# Altium footprint library StepperMotor.PcbLib: 31 footprints (part 2 of 2)
Each footprint in its own frame and in the unit in brackets; x right, y up, seen from the top. Pads: shape width x height; smd on the part's side, far side on the other; paste and mask are expansions set on the pad; w line width, h text height; cw(c..) or ccw(c..) is an arc to the next point about the centre after c.
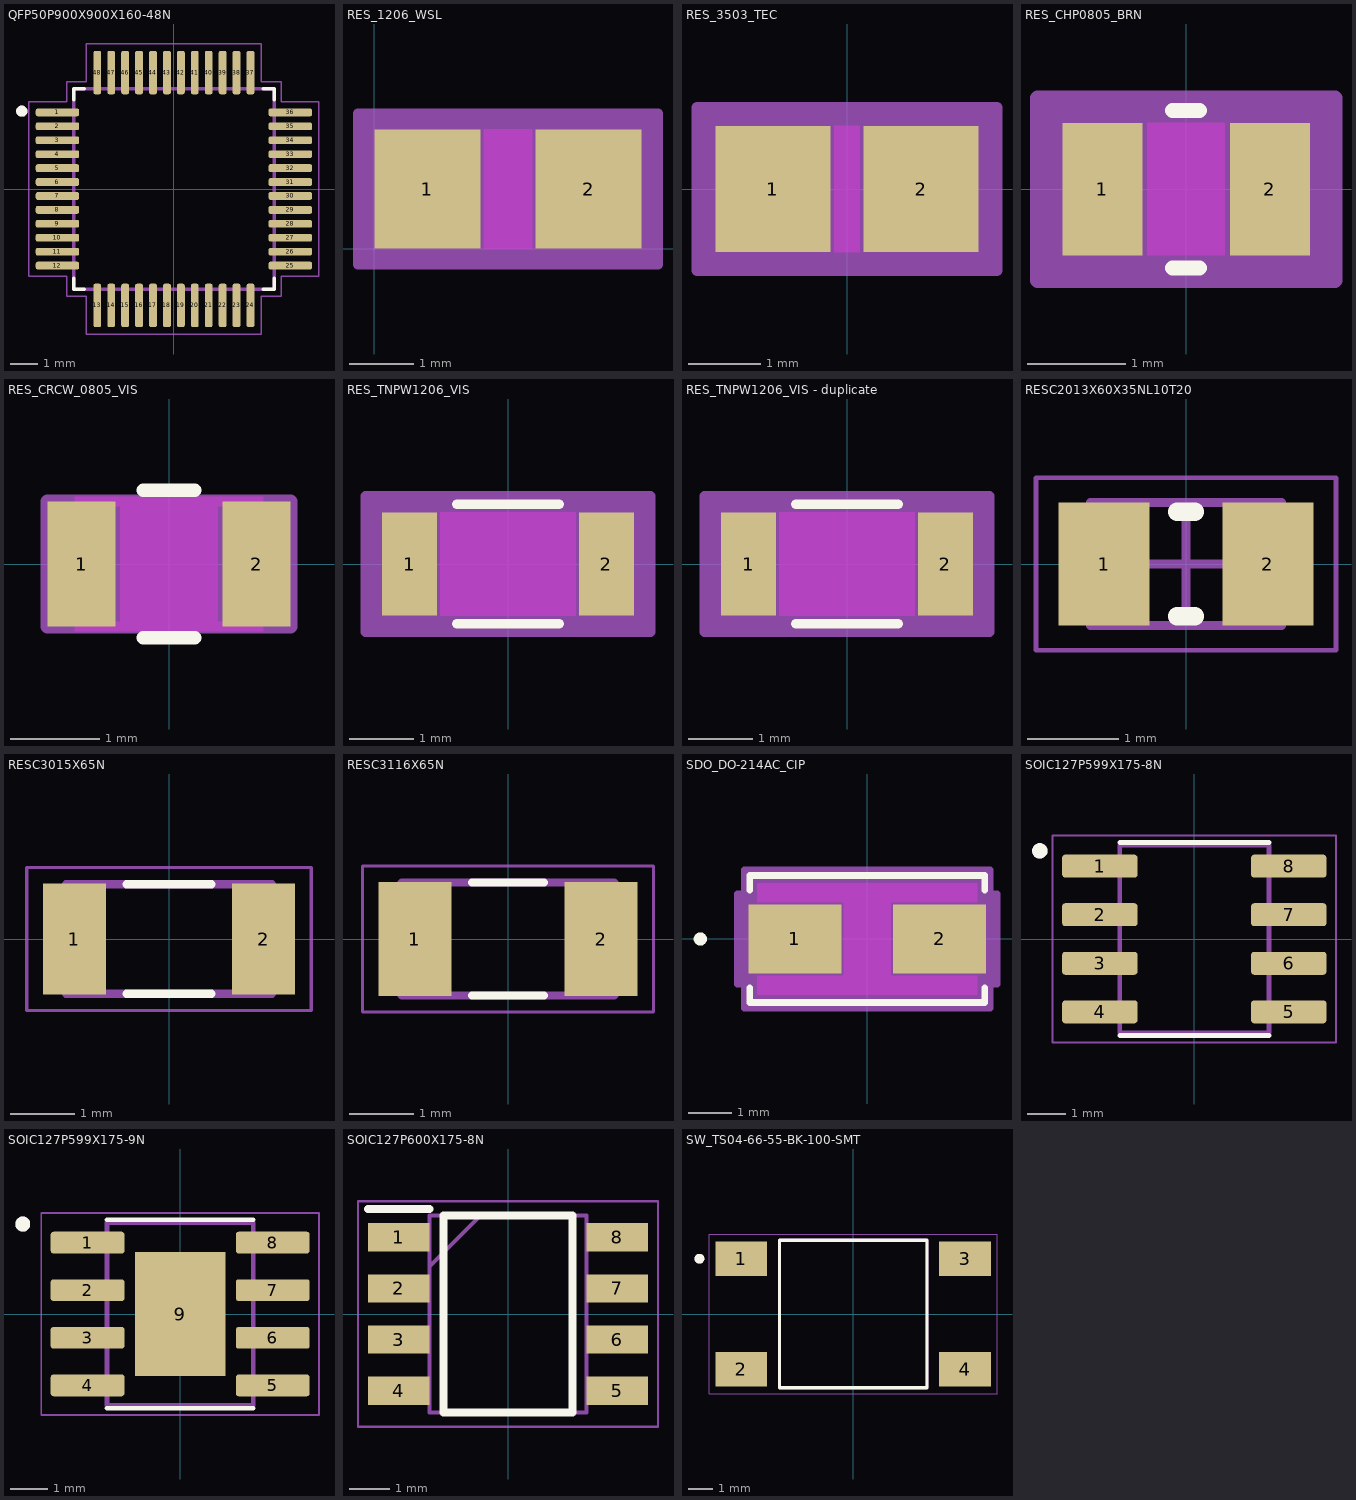
[diagram p1: the footprints below, top view; thin cyan lines are the x and y axes]

## QFP50P900X900X160-48N [mm]
pads (48):
  rrect50% 1.56x0.28 smd: 1(-4.18,2.75) 2(-4.18,2.25) 3(-4.18,1.75) 4(-4.18,1.25) 5(-4.18,0.75) 6(-4.18,0.25) 7(-4.18,-0.25) 8(-4.18,-0.75) 9(-4.18,-1.25) 10(-4.18,-1.75) 11(-4.18,-2.25) 12(-4.18,-2.75) 25(4.18,-2.75) 26(4.18,-2.25) 27(4.18,-1.75) 28(4.18,-1.25) 29(4.18,-0.75) 30(4.18,-0.25) 31(4.18,0.25) 32(4.18,0.75) 33(4.18,1.25) 34(4.18,1.75) 35(4.18,2.25) 36(4.18,2.75)
  rrect50% 0.28x1.56 smd: 13(-2.75,-4.18) 14(-2.25,-4.18) 15(-1.75,-4.18) 16(-1.25,-4.18) 17(-0.75,-4.18) 18(-0.25,-4.18) 19(0.25,-4.18) 20(0.75,-4.18) 21(1.25,-4.18) 22(1.75,-4.18) 23(2.25,-4.18) 24(2.75,-4.18) 37(2.75,4.18) 38(2.25,4.18) 39(1.75,4.18) 40(1.25,4.18) 41(0.75,4.18) 42(0.25,4.18) 43(-0.25,4.18) 44(-0.75,4.18) 45(-1.25,4.18) 46(-1.75,4.18) 47(-2.25,4.18) 48(-2.75,4.18)
Top Overlay:
  circle w0.2: c-5.461,2.794 r0.1
  lines w0.127: -3.6,-3.21 -3.6,-3.6 -3.21,-3.6 ; -3.6,3.21 -3.6,3.6 -3.21,3.6 ; 3.21,-3.6 3.6,-3.6 3.6,-3.21 ; 3.21,3.6 3.6,3.6 3.6,3.21
Mechanical 13:
  circle w0.2: c-5.461,2.794 r0.1
  lines w0.127: -3.6,-3.6 3.6,-3.6 3.6,3.6 -3.6,3.6 -3.6,-3.6
Mechanical 15:
  lines w0.05: -5.21,-3.14 -5.21,3.14 -3.85,3.14 -3.85,3.85 -3.14,3.85 -3.14,5.21 3.14,5.21 3.14,3.85 3.85,3.85 3.85,3.14 5.21,3.14 5.21,-3.14 3.85,-3.14 3.85,-3.85 3.14,-3.85 3.14,-5.21 -3.14,-5.21 -3.14,-3.85 -3.85,-3.85 -3.85,-3.14 -5.21,-3.14

## RES_1206_WSL [mil]
pads (2):
  rect 65x73 smd paste-36.5 mask-36.5: 1(32.46,36.52) 2(131.46,36.52)
Top Layer keep-out:
  region: 66.96,2.02 66.96,71.02 96.96,71.02 96.96,2.02
Keep-Out Layer:
  region: 66.96,0.02 66.96,73.02 96.96,73.02 96.96,0.02
Mechanical 13:
  lines w1: 13.96,0.02 13.96,73.02 ; 13.96,0.02 64.96,0.02 64.96,73.02 13.96,73.02 ; 13.96,0.02 149.96,0.02 ; 13.96,0.02 13.96,73.02 ; 13.96,73.02 149.96,73.02 ; 149.96,0.02 98.96,0.02 98.96,73.02 149.96,73.02 ; 149.96,0.02 149.96,73.02 ; 149.96,0.02 149.96,73.02
Mechanical 15:
  region: 173.96,-9.98 -10.04,-9.98 -10.04,83.02 173.96,83.02
  lines w6: -10.04,-9.98 -10.04,83.02 173.96,83.02 173.96,-9.98 -10.04,-9.98
3D body "RES_1206_WSL.step": height 35, standoff 0, extent 13.96,0.03 149.95,73.02

## RES_3503_TEC [mil]
pads (2):
  rect 63x69 smd paste+0 mask+0: 1(-40.5,0) 2(40.5,0)
Top Layer keep-out:
  region: -7,-32.5 -7,32.5 7,32.5 7,-32.5
Keep-Out Layer:
  region: -7,-34.5 -7,34.5 7,34.5 7,-34.5
Mechanical 13:
  lines w1: -64,-34.5 -64,34.5 ; -64,-34.5 64,-34.5 ; -64,-34.5 -9,-34.5 -9,34.5 -64,34.5 ; -64,-34.5 -64,34.5 ; -64,34.5 64,34.5 ; 64,-34.5 64,34.5 ; 64,-34.5 64,34.5 ; 64,-34.5 9,-34.5 9,34.5 64,34.5
Mechanical 15:
  region: 82,-44.5 -82,-44.5 -82,44.5 82,44.5
  lines w6: -82,-44.5 82,-44.5 82,44.5 -82,44.5 -82,-44.5
3D body "RES_3503_TEC.step": height 22.99, standoff 0, extent -64.02,-34.49 64.02,34.49

## RES_CHP0805_BRN [mil]
pads (2):
  rect 32x53 smd paste+0 mask+0: 1(-33.5,0) 2(33.5,0)
Top Layer keep-out:
  region: -15.5,-24.5 -15.5,24.5 15.5,24.5 15.5,-24.5
Top Overlay:
  lines w6: -5.39,-31.5 5.39,-31.5 ; -5.39,31.5 5.39,31.5
Keep-Out Layer:
  region: -15.5,-26.5 -15.5,26.5 15.5,26.5 15.5,-26.5
Mechanical 13:
  lines w1: -41.5,-26.5 -41.5,26.5 ; -41.5,-26.5 -17.5,-26.5 -17.5,26.5 -41.5,26.5 ; -41.5,-26.5 41.5,-26.5 ; -41.5,-26.5 -41.5,26.5 ; -41.5,26.5 41.5,26.5 ; 41.5,-26.5 17.5,-26.5 17.5,26.5 41.5,26.5 ; 41.5,-26.5 41.5,26.5 ; 41.5,-26.5 41.5,26.5
Mechanical 15:
  region: 59.5,-36.5 -59.5,-36.5 -59.5,36.5 59.5,36.5
  lines w6: -59.5,-36.5 -59.5,36.5 59.5,36.5 59.5,-36.5 -59.5,-36.5
3D body "RES_CHP0805_BRN.step": height 24.02, standoff 0, extent -41.5,-26.5 41.5,26.5

## RES_CRCW_0805_VIS [mil]
pads (2):
  rect 30x55 smd paste+0 mask+0: 1(-38.5,0) 2(38.5,0)
Top Layer keep-out:
  region: -41.5,-25.5 -41.5,-29.5 41.5,-29.5 41.5,-25.5
  region: -41.5,29.5 -41.5,25.5 41.5,25.5 41.5,29.5
  region: -21.5,-29.5 -21.5,29.5 21.5,29.5 21.5,-29.5
Top Overlay:
  lines w6: -11.39,-32.5 11.39,-32.5 ; -11.39,32.5 11.39,32.5
Keep-Out Layer:
  region: -21.5,-29.5 -21.5,29.5 21.5,29.5 21.5,-29.5
Mechanical 13:
  lines w1: -43.5,-27.5 -43.5,27.5 43.5,27.5 43.5,-27.5 -43.5,-27.5
Mechanical 15:
  region: -43.5,-27.5 -53.5,-27.5 -53.5,27.5 -43.5,27.5 43.5,27.5 53.5,27.5 53.5,-27.5 43.5,-27.5
  lines w6: -53.5,-27.5 -43.5,-27.5 43.5,-27.5 53.5,-27.5 53.5,27.5 43.5,27.5 -43.5,27.5 -53.5,27.5 -53.5,-27.5
3D body "RES_CRCW_0805_VIS.step": height 20, standoff 0, extent -43.5,-27.48 43.5,27.48

## RES_TNPW1206_VIS [mm]
pads (2):
  rect 0.856x1.6 smd paste+0 mask+0: 1(-1.528,0) 2(1.528,0)
Top Layer keep-out:
  region: -1.049,-0.749 -1.049,0.749 1.049,0.749 1.049,-0.749
Top Overlay:
  lines w0.152: -0.792,-0.927 0.792,-0.927 ; -0.792,0.927 0.792,0.927
Keep-Out Layer:
  region: -1.049,-0.8 -1.049,0.8 1.049,0.8 1.049,-0.8
Mechanical 13:
  lines w0.025: -1.6,-0.8 -1.6,0.8 ; -1.6,-0.8 1.6,-0.8 ; -1.6,-0.8 -1.1,-0.8 -1.1,0.8 -1.6,0.8 ; -1.6,-0.8 -1.6,0.8 ; -1.6,0.8 1.6,0.8 ; 1.6,-0.8 1.6,0.8 ; 1.6,-0.8 1.6,0.8 ; 1.6,-0.8 1.1,-0.8 1.1,0.8 1.6,0.8
Mechanical 15:
  region: 2.21,-1.054 -2.21,-1.054 -2.21,1.054 2.21,1.054
  lines w0.152: -2.21,-1.054 2.21,-1.054 2.21,1.054 -2.21,1.054 -2.21,-1.054
3D body "RES_TNPW1206_VIS.step": height 0.55, standoff 0, extent -1.6,-0.8 1.6,0.8

## RES_TNPW1206_VIS - duplicate [mm]
pads (2):
  rect 0.856x1.6 smd paste+0 mask+0: 1(-1.528,0) 2(1.528,0)
Top Layer keep-out:
  region: -1.049,-0.749 -1.049,0.749 1.049,0.749 1.049,-0.749
Top Overlay:
  lines w0.152: -0.792,-0.927 0.792,-0.927 ; -0.792,0.927 0.792,0.927
Keep-Out Layer:
  region: -1.049,-0.8 -1.049,0.8 1.049,0.8 1.049,-0.8
Mechanical 13:
  lines w0.025: -1.6,-0.8 -1.6,0.8 ; -1.6,-0.8 -1.1,-0.8 -1.1,0.8 -1.6,0.8 ; -1.6,-0.8 1.6,-0.8 ; -1.6,-0.8 -1.6,0.8 ; -1.6,0.8 1.6,0.8 ; 1.6,-0.8 1.1,-0.8 1.1,0.8 1.6,0.8 ; 1.6,-0.8 1.6,0.8 ; 1.6,-0.8 1.6,0.8
Mechanical 15:
  region: 2.21,-1.054 -2.21,-1.054 -2.21,1.054 2.21,1.054
  lines w0.152: -2.21,-1.054 -2.21,1.054 2.21,1.054 2.21,-1.054 -2.21,-1.054
3D body "RES_TNPW1206_VIS.step": height 0.55, standoff 0, extent -1.6,-0.8 1.6,0.8

## RESC2013X60X35NL10T20 [mm] "Chip Resistor, 2-Leads, Body 2.1x1.35mm, IPC Medium Density"
height 0.6
pads (2):
  rect 1x1.35 smd: 1(-0.9,0) 2(0.9,0)
Top Overlay:
  lines w0.2: -0.1,-0.575 0.1,-0.575 ; -0.1,0.575 0.1,0.575
Mechanical 13:
  lines w0.1: -1.05,-0.675 -1.05,0.675 1.05,0.675 1.05,-0.675 -1.05,-0.675
Mechanical 15:
  lines w0.05: -1.65,-0.95 -1.65,0.95 1.65,0.95 1.65,-0.95 -1.65,-0.95
  lines w0.1: -0.5,0 0.5,0 ; 0,-0.5 0,0.5
3D body "RESC2012X06N.step": height 0.6, standoff 0, extent -1.05,-0.675 1.05,0.675

## RESC3015X65N [mm]
pads (2):
  rect 0.98x1.72 smd: 1(-1.47,0) 2(1.47,0)
Top Overlay:
  lines w0.127: -0.66,-0.85 0.66,-0.85 ; -0.66,0.85 0.66,0.85
Mechanical 13:
  lines w0.127: -1.6,-0.85 1.6,-0.85 1.6,0.85 -1.6,0.85 -1.6,-0.85
Mechanical 15:
  lines w0.05: -2.21,-1.11 2.21,-1.11 2.21,1.11 -2.21,1.11 -2.21,-1.11

## RESC3116X65N [mm]
pads (2):
  rect 1.13x1.77 smd: 1(-1.445,0) 2(1.445,0)
Top Overlay:
  lines w0.127: -0.56,-0.88 0.56,-0.88 ; -0.56,0.88 0.56,0.88
Mechanical 13:
  lines w0.127: -1.65,-0.88 -1.65,0.88 1.65,0.88 1.65,-0.88 -1.65,-0.88
Mechanical 15:
  lines w0.05: -2.26,-1.135 -2.26,1.135 2.26,1.135 2.26,-1.135 -2.26,-1.135

## SDO_DO-214AC_CIP [mil]
pads (2):
  rect 85x63 smd paste+0 mask+0: 1(-66,0) 2(66,0)
Top Layer keep-out:
  region: -21.5,-33.5 -21.5,33.5 21.5,33.5 21.5,-33.5
  region: -100.5,33.5 -100.5,51 100.5,51 100.5,33.5
  region: -100.5,-51 -100.5,-33.5 100.5,-33.5 100.5,-51
Top Overlay:
  circle w6: c-152.5,0 r3
  lines w6: -107.5,-44.6 -107.5,-58 107.5,-58 107.5,-44.6 ; -107.5,44.6 -107.5,58 107.5,58 107.5,44.6
Keep-Out Layer:
  region: -21.5,-33.5 -21.5,33.5 21.5,33.5 21.5,-33.5
Mechanical 13:
  circle w0: c-92.5,0 r3
  lines w1: -102.5,-53 102.5,-53 102.5,53 -102.5,53 -102.5,-53
Mechanical 15:
  region: -112.5,-41.5 -118.5,-41.5 -118.5,41.5 -112.5,41.5 -112.5,63 112.5,63 112.5,41.5 118.5,41.5 118.5,-41.5 112.5,-41.5 112.5,-63 -112.5,-63
  lines w6: -118.5,-41.5 -118.5,41.5 -112.5,41.5 -112.5,63 112.5,63 112.5,41.5 118.5,41.5 118.5,-41.5 112.5,-41.5 112.5,-63 -112.5,-63 -112.5,-41.5 -118.5,-41.5
3D body "SDO_DO-214AC_CIP.step": height 89.02, standoff 0, extent -102.52,-52.99 102.52,52.99

## SOIC127P599X175-8N [mm]
pads (8):
  rrect25% 1.97x0.6 smd: 1(-2.47,1.905) 2(-2.47,0.635) 3(-2.47,-0.635) 4(-2.47,-1.905) 5(2.47,-1.905) 6(2.47,-0.635) 7(2.47,0.635) 8(2.47,1.905)
Top Overlay:
  circle w0.2: c-4.04,2.305 r0.1
  lines w0.127: -1.95,-2.525 1.95,-2.525 ; -1.95,2.525 1.95,2.525
Mechanical 13:
  circle w0.2: c-4.04,2.305 r0.1
  lines w0.127: -1.95,-2.452 -1.95,2.452 1.95,2.452 1.95,-2.452 -1.95,-2.452
Mechanical 15:
  lines w0.05: -3.705,-2.702 -3.705,2.702 3.705,2.702 3.705,-2.702 -3.705,-2.702
3D body "step_temp.STEP": height 1.75, standoff 0, extent -2.997,-2.451 2.997,2.451

## SOIC127P599X175-9N [mm]
pads (9):
  rrect25% 1.97x0.58 smd: 1(-2.47,1.905) 2(-2.47,0.635) 3(-2.47,-0.635) 4(-2.47,-1.905) 5(2.47,-1.905) 6(2.47,-0.635) 7(2.47,0.635) 8(2.47,1.905)
  rect 2.413x3.302 smd paste-3: 9(0,0)
Top Overlay:
  circle w0.2: c-4.2,2.4 r0.1
  lines w0.127: -1.949,-2.515 1.949,-2.515 ; -1.949,2.515 1.949,2.515
Top Paste:
  region: 0.76,-1.04 -0.76,-1.04 -0.76,1.04 0.76,1.04
Mechanical 13:
  circle w0.2: c-4.2,2.4 r0.1
  lines w0.127: -1.949,-2.445 -1.949,2.445 1.949,2.445 1.949,-2.445 -1.949,-2.445
Mechanical 15:
  lines w0.05: -3.705,-2.695 -3.705,2.695 3.705,2.695 3.705,-2.695 -3.705,-2.695
3D body "step_temp.STEP": height 1.75, standoff 0, extent -2.998,-2.451 2.998,2.451

## SOIC127P600X175-8N [mm]
pads (8):
  rect 1.525x0.7 smd: 1(-2.712,1.905) 2(-2.712,0.635) 3(-2.712,-0.635) 4(-2.712,-1.905) 5(2.712,-1.905) 6(2.712,-0.635) 7(2.712,0.635) 8(2.712,1.905)
Top Overlay:
  lines w0.2: -3.475,2.605 -1.95,2.605 ; -1.6,-2.45 -1.6,2.45 1.6,2.45 1.6,-2.45 -1.6,-2.45
Mechanical 15:
  lines w0.1: -1.95,1.18 -0.68,2.45 ; -1.95,-2.45 -1.95,2.45 1.95,2.45 1.95,-2.45 -1.95,-2.45
Mechanical 20:
  lines w0.05: -3.725,-2.8 -3.725,2.8 3.725,2.8 3.725,-2.8 -3.725,-2.8

## SW_TS04-66-55-BK-100-SMT [mm]
pads (4):
  rect 2.1x1.4 smd: 1(-4.55,2.25) 2(-4.55,-2.25) 3(4.55,2.25) 4(4.55,-2.25)
Top Overlay:
  circle w0.2: c-6.25,2.25 r0.1
  lines w0.127: -3,-3 -3,3 3,3 3,-3 -3,-3
Mechanical 13:
  circle w0.2: c-6.25,2.25 r0.1
  lines w0.127: -3,-3 -3,3 3,3 3,-3 -3,-3
Mechanical 15:
  lines w0.05: -5.85,-3.25 -5.85,3.25 5.85,3.25 5.85,-3.25 -5.85,-3.25